# Altium schematic symbol library 2-796658-8.SchLib: 1 symbol
Pins are listed as number, name and electrical type; pins without a type are passive.

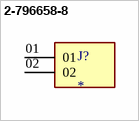
[diagram p0: symbol 2-796658-8]

## 2-796658-8
designator J?
Barrier Terminal Blocks; MF: TE Connectivity; MP: 2-796658-8; SnapEDA_Link: https://www.snapeda.com/parts/2-796658-8/TE+Connectivity/view-part/?ref=snap; Package: None; Value: *; EU_RoHS_Compliance: Compliant; Check_prices: https://www.snapeda.com/parts/2-796658-8/TE+Connectivity/view-part/?ref=eda
footprint TE_2-796658-8
pins: 01, 02